# Altium footprint library PDIP.PcbLib: 7 footprints
Each footprint in its own frame and in the unit in brackets; x right, y up, seen from the top. Pads: shape width x height; smd on the part's side, far side on the other; paste and mask are expansions set on the pad; w line width, h text height; cw(c..) or ccw(c..) is an arc to the next point about the centre after c.
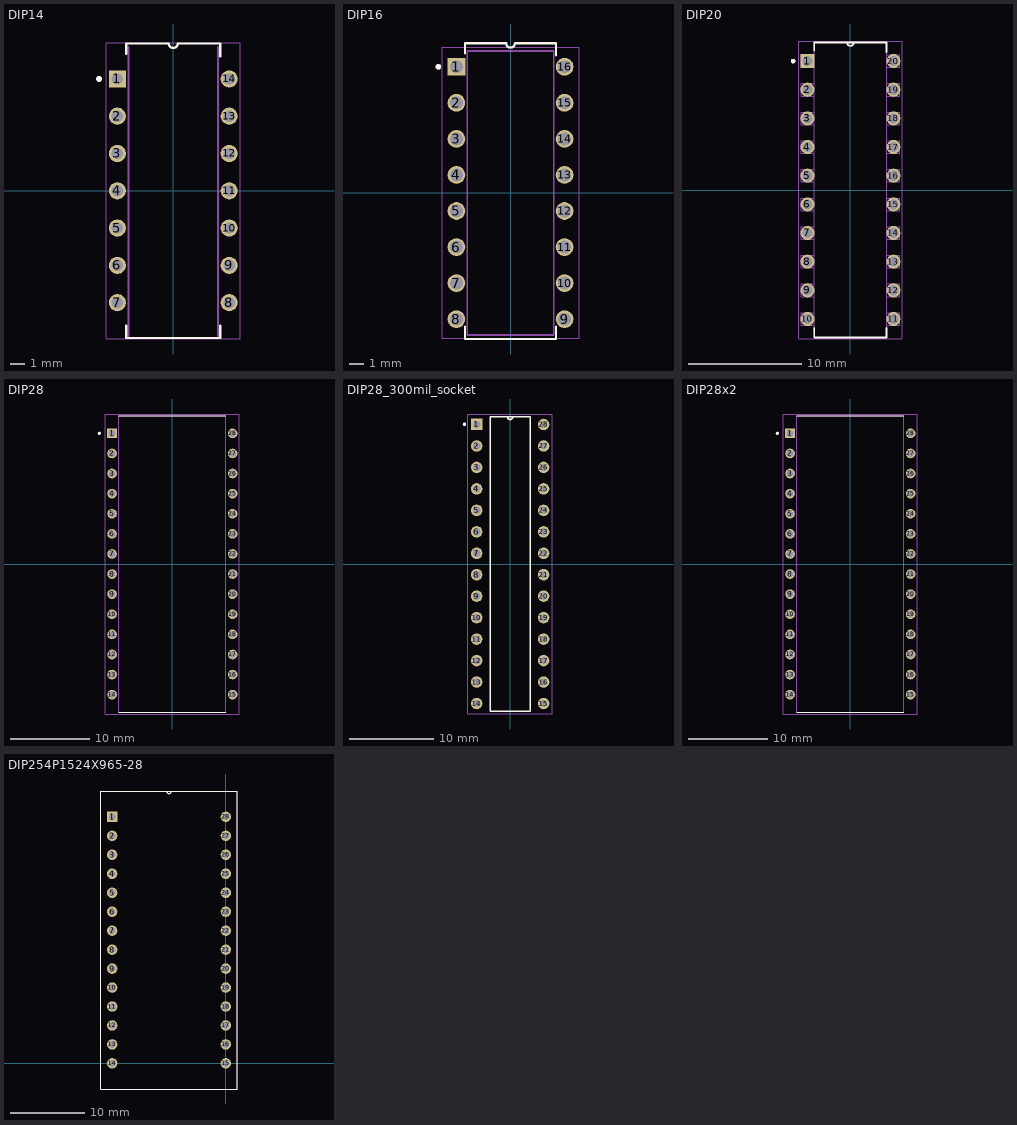
[diagram p0: the footprints below, top view; thin cyan lines are the x and y axes]

## DIP14 [mm]
pads (14):
  rect 1.17x1.17 hole 0.77: 1(-3.81,7.62)
  round 1.17 hole 0.77: 2(-3.81,5.08) 3(-3.81,2.54) 4(-3.81,0) 5(-3.81,-2.54) 6(-3.81,-5.08) 7(-3.81,-7.62) 8(3.81,-7.62) 9(3.81,-5.08) 10(3.81,-2.54) 11(3.81,0) 12(3.81,2.54) 13(3.81,5.08) 14(3.81,7.62)
Top Overlay:
  circle w0.2: c-5.055,7.62 r0.1
  lines w0.152: -3.2,-9.169 -3.2,-10.033 3.2,-10.033 3.2,-9.169 ; -3.2,9.322 -3.2,10.033 -0.305,10.033 ccw(c0,10.033) 0.305,10.033 3.2,10.033 3.2,9.169
Mechanical 13:
  circle w0.2: c-5.055,7.62 r0.1
  lines w0.127: -3.048,-9.906 -3.048,9.784 ; 3.048,-9.906 3.048,9.784
Mechanical 15:
  lines w0.05: -4.572,-10.095 -4.572,10.095 4.572,10.095 4.572,-10.095 -4.572,-10.095
3D body "PDIP14.STEP": height 5.59, standoff -3.81, extent -3.956,-9.652 3.956,9.652

## DIP16 [mm]
height 5.1
pads (16):
  rect 1.25x1.25 / inner round 1.25 / far side rect 1.25x1.25 hole 0.9: 1(-3.81,8.89)
  round 1.25 hole 0.9: 2(-3.81,6.35) 3(-3.81,3.81) 4(-3.81,1.27) 5(-3.81,-1.27) 6(-3.81,-3.81) 7(-3.81,-6.35) 8(-3.81,-8.89) 9(3.81,-8.89) 10(3.81,-6.35) 11(3.81,-3.81) 12(3.81,-1.27) 13(3.81,1.27) 14(3.81,3.81) 15(3.81,6.35) 16(3.81,8.89)
Top Overlay:
  circle w0.2: c-5.08,8.89 r0.1
  lines w0.152: -3.2,-9.423 -3.2,-10.287 3.2,-10.287 3.2,-9.423 ; -3.2,9.83 -3.2,10.541 -0.305,10.541 ccw(c0,10.541) 0.305,10.541 3.2,10.541 3.2,9.677
Mechanical 13:
  circle w0.2: c-5.08,8.89 r0.1
  lines w0.127: -3.048,-10 -3.048,10 3.048,10 3.048,-10 -3.048,-10
Mechanical 15:
  lines w0.05: -4.826,-10.25 -4.826,10.25 4.826,10.25 4.826,-10.25 -4.826,-10.25
3D body "step_temp.STEP": height 5.1, standoff -3.3, extent -4.62,-10 4.62,10

## DIP20 [mm]
pads (20):
  rect 1.25x1.25 / inner round 1.25 / far side rect 1.25x1.25 hole 0.9: 1(-3.81,11.43)
  round 1.25 hole 0.9: 2(-3.81,8.89) 3(-3.81,6.35) 4(-3.81,3.81) 5(-3.81,1.27) 6(-3.81,-1.27) 7(-3.81,-3.81) 8(-3.81,-6.35) 9(-3.81,-8.89) 10(-3.81,-11.43) 11(3.81,-11.43) 12(3.81,-8.89) 13(3.81,-6.35) 14(3.81,-3.81) 15(3.81,-1.27) 16(3.81,1.27) 17(3.81,3.81) 18(3.81,6.35) 19(3.81,8.89) 20(3.81,11.43)
Top Overlay:
  circle w0.2: c-5.08,11.43 r0.1
  lines w0.152: -3.2,-12.217 -3.2,-13.081 3.2,-13.081 3.2,-12.217 ; -3.2,12.37 -3.2,13.081 -0.305,13.081 ; 3.2,12.217 3.2,13.081 0.305,13.081 ; -0.305,13.081 ccw(c0,13.081) 0.305,13.081 ; -0.305,13.081 0.305,13.081
Mechanical 13:
  circle w0.2: c-5.08,11.43 r0.1
  lines w0: -3.2,-13.081 3.2,-13.081 ; -3.2,-12.7 -3.2,13.081 -0.305,13.081 ; 3.2,-12.7 3.2,13.081 0.305,13.081 ; -0.305,13.081 ccw(c0,13.081) 0.305,13.081 ; -0.305,13.081 0.305,13.081 ; -4.369,-11.989 -4.369,-10.871 -3.2,-10.871 -3.2,-11.989 -4.369,-11.989 ; -4.369,-9.449 -4.369,-8.331 -3.2,-8.331 -3.2,-9.449 -4.369,-9.449 ; -4.369,-6.909 -4.369,-5.791 -3.2,-5.791 -3.2,-6.909 -4.369,-6.909 ; -4.369,-4.369 -4.369,-3.251 -3.2,-3.251 -3.2,-4.369 -4.369,-4.369 ; -4.369,-1.829 -4.369,-0.711 -3.2,-0.711 -3.2,-1.829 -4.369,-1.829 ; -4.369,0.711 -4.369,1.829 -3.2,1.829 -3.2,0.711 -4.369,0.711 ; -4.369,3.251 -4.369,4.369 -3.2,4.369 -3.2,3.251 -4.369,3.251 ; -4.369,5.791 -4.369,6.909 -3.2,6.909 -3.2,5.791 -4.369,5.791 ; -4.369,8.331 -4.369,9.449 -3.2,9.449 -3.2,8.331 -4.369,8.331 ; -4.369,10.871 -4.369,11.989 -3.2,11.989 -3.2,10.871 -4.369,10.871 ; 3.2,-11.989 3.2,-10.871 4.369,-10.871 4.369,-11.989 3.2,-11.989 ; 3.2,-9.449 3.2,-8.331 4.369,-8.331 4.369,-9.449 3.2,-9.449 ; 3.2,-6.909 3.2,-5.791 4.369,-5.791 4.369,-6.909 3.2,-6.909 ; 3.2,-4.369 3.2,-3.251 4.369,-3.251 4.369,-4.369 3.2,-4.369 ; 3.2,-1.829 3.2,-0.711 4.369,-0.711 4.369,-1.829 3.2,-1.829 ; 3.2,0.711 3.2,1.829 4.369,1.829 4.369,0.711 3.2,0.711 ; 3.2,3.251 3.2,4.369 4.369,4.369 4.369,3.251 3.2,3.251 ; 3.2,5.791 3.2,6.909 4.369,6.909 4.369,5.791 3.2,5.791 ; 3.2,8.331 3.2,9.449 4.369,9.449 4.369,8.331 3.2,8.331 ; 3.2,10.871 3.2,11.989 4.369,11.989 4.369,10.871 3.2,10.871
Mechanical 15:
  lines w0.05: -4.572,-13.208 4.572,-13.208 4.572,13.208 -4.572,13.208 -4.572,-13.208
3D body "step_temp.STEP": height 5.08, standoff -3.17, extent -3.937,-12.7 3.937,12.7

## DIP28 [mm]
height 6.35
pads (28):
  rect 1.22x1.22 / inner round 1.22 / far side rect 1.22x1.22 hole 0.87: 1(-7.62,16.51)
  round 1.22 hole 0.87: 2(-7.62,13.97) 3(-7.62,11.43) 4(-7.62,8.89) 5(-7.62,6.35) 6(-7.62,3.81) 7(-7.62,1.27) 8(-7.62,-1.27) 9(-7.62,-3.81) 10(-7.62,-6.35) 11(-7.62,-8.89) 12(-7.62,-11.43) 13(-7.62,-13.97) 14(-7.62,-16.51) 15(7.62,-16.51) 16(7.62,-13.97) 17(7.62,-11.43) 18(7.62,-8.89) 19(7.62,-6.35) 20(7.62,-3.81) 21(7.62,-1.27) 22(7.62,1.27) 23(7.62,3.81) 24(7.62,6.35) 25(7.62,8.89) 26(7.62,11.43) 27(7.62,13.97) 28(7.62,16.51)
Top Overlay:
  circle w0.2: c-9.23,16.51 r0.1
  lines w0.127: -6.763,-18.703 6.763,-18.703 ; -6.763,18.703 6.763,18.703
Mechanical 13:
  circle w0.2: c-9.23,16.51 r0.1
  lines w0.127: -6.763,-18.703 -6.763,18.703 6.763,18.703 6.763,-18.703 -6.763,-18.703
Mechanical 15:
  lines w0.05: -8.48,-18.952 -8.48,18.952 8.48,18.952 8.48,-18.952 -8.48,-18.952
3D body "step_temp.STEP": height 6.35, standoff -5.08, extent -7.766,-18.701 7.766,18.701

## DIP28_300mil_socket [mm]
pads (28):
  rect 1.358x1.358 hole 0.85: 1(-3.96,16.51)
  round 1.358 hole 0.85: 2(-3.96,13.97) 3(-3.96,11.43) 4(-3.96,8.89) 5(-3.96,6.35) 6(-3.96,3.81) 7(-3.96,1.27) 8(-3.96,-1.27) 9(-3.96,-3.81) 10(-3.96,-6.35) 11(-3.96,-8.89) 12(-3.96,-11.43) 13(-3.96,-13.97) 14(-3.96,-16.51) 15(3.96,-16.51) 16(3.96,-13.97) 17(3.96,-11.43) 18(3.96,-8.89) 19(3.96,-6.35) 20(3.96,-3.81) 21(3.96,-1.27) 22(3.96,1.27) 23(3.96,3.81) 24(3.96,6.35) 25(3.96,8.89) 26(3.96,11.43) 27(3.96,13.97) 28(3.96,16.51)
Top Overlay:
  circle w0.2: c-5.41,16.535 r0.1
  lines w0.152: -0.305,17.399 ccw(c0,17.399) 0.305,17.399 ; -2.38,-17.4 2.38,-17.4 2.38,17.4 -2.38,17.4 -2.38,-17.4
Mechanical 15:
  lines w0.05: -5,-17.75 -5,17.75 5,17.75 5,-17.75 -5,-17.75
3D body "DIP28_300mil.STEP": height 9.07, standoff 1.07, extent -3.95,-17.335 3.95,17.335
3D body "dip28_sock.stp": height 4.3, standoff -3.07, extent -5.05,-17.852 5.05,17.648

## DIP28x2 [mm]
height 6.35
pads (28):
  rect 1.22x1.22 / inner round 1.22 / far side rect 1.22x1.22 hole 0.87: 1(-7.62,16.51)
  round 1.22 hole 0.87: 2(-7.62,13.97) 3(-7.62,11.43) 4(-7.62,8.89) 5(-7.62,6.35) 6(-7.62,3.81) 7(-7.62,1.27) 8(-7.62,-1.27) 9(-7.62,-3.81) 10(-7.62,-6.35) 11(-7.62,-8.89) 12(-7.62,-11.43) 13(-7.62,-13.97) 14(-7.62,-16.51) 15(7.62,-16.51) 16(7.62,-13.97) 17(7.62,-11.43) 18(7.62,-8.89) 19(7.62,-6.35) 20(7.62,-3.81) 21(7.62,-1.27) 22(7.62,1.27) 23(7.62,3.81) 24(7.62,6.35) 25(7.62,8.89) 26(7.62,11.43) 27(7.62,13.97) 28(7.62,16.51)
Top Overlay:
  circle w0.2: c-9.23,16.51 r0.1
  lines w0.127: -6.763,-18.703 6.763,-18.703 ; -6.763,18.703 6.763,18.703
Mechanical 13:
  circle w0.2: c-9.23,16.51 r0.1
  lines w0.127: -6.763,-18.703 6.763,-18.703 6.763,18.703 -6.763,18.703 -6.763,-18.703
Mechanical 15:
  lines w0.05: -8.48,-18.952 8.48,-18.952 8.48,18.952 -8.48,18.952 -8.48,-18.952
3D body "step_temp.STEP": height 12.85, standoff 1.42, extent -7.766,-18.701 7.766,18.701
3D body "step_temp.STEP": height 6.35, standoff -5.08, extent -7.766,-18.701 7.766,18.701

## DIP254P1524X965-28 [mm]
pads (28):
  rect 1.4x1.4 hole 0.9: 1(-15.24,33.02)
  round 1.4 hole 0.9: 2(-15.24,30.48) 3(-15.24,27.94) 4(-15.24,25.4) 5(-15.24,22.86) 6(-15.24,20.32) 7(-15.24,17.78) 8(-15.24,15.24) 9(-15.24,12.7) 10(-15.24,10.16) 11(-15.24,7.62) 12(-15.24,5.08) 13(-15.24,2.54) 14(-15.24,0) 15(0,0) 16(0,2.54) 17(0,5.08) 18(0,7.62) 19(0,10.16) 20(0,12.7) 21(0,15.24) 22(0,17.78) 23(0,20.32) 24(0,22.86) 25(0,25.4) 26(0,27.94) 27(0,30.48) 28(0,33.02)
Top Overlay:
  lines w0.152: -7.925,36.449 ccw(c-7.62,36.449) -7.315,36.449 ; -7.925,36.449 -16.789,36.449 -16.789,-3.429 1.549,-3.429 1.549,36.449 -7.315,36.449 ; -7.925,36.449 -7.315,36.449
Mechanical 13:
  lines w0: -16.789,-0.559 -16.789,0.559 ; -16.789,1.981 -16.789,3.099 ; -16.789,4.521 -16.789,5.639 ; -16.789,7.061 -16.789,8.179 ; -16.789,9.601 -16.789,10.719 ; -16.789,12.141 -16.789,13.259 ; -16.789,14.681 -16.789,15.799 ; -16.789,17.221 -16.789,18.339 ; -16.789,19.761 -16.789,20.879 ; -16.789,22.301 -16.789,23.419 ; -16.789,24.841 -16.789,25.959 ; -16.789,27.381 -16.789,28.499 ; -16.789,29.921 -16.789,31.039 ; -16.789,32.461 -16.789,33.579 ; 1.549,-0.559 1.549,0.559 ; 1.549,1.981 1.549,3.099 ; 1.549,4.521 1.549,5.639 ; 1.549,7.061 1.549,8.179 ; 1.549,9.601 1.549,10.719 ; 1.549,12.141 1.549,13.259 ; 1.549,14.681 1.549,15.799 ; 1.549,17.221 1.549,18.339 ; 1.549,19.761 1.549,20.879 ; 1.549,22.301 1.549,23.419 ; 1.549,24.841 1.549,25.959 ; 1.549,27.381 1.549,28.499 ; 1.549,29.921 1.549,31.039 ; 1.549,32.461 1.549,33.579 ; -7.925,36.449 ccw(c-7.62,36.449) -7.315,36.449 ; -7.925,36.449 -16.789,36.449 -16.789,-3.429 1.549,-3.429 1.549,36.449 -7.315,36.449 ; -7.925,36.449 -7.315,36.449
3D body "SCL-28.STEP": height 5.4, standoff -2.8, extent -16.459,-1.295 1.321,34.265
3D body "M48Z35Y-70PC1.STEP": height 14.65, standoff 1.19, extent -16.612,-3.328 1.473,36.297